# Altium schematic symbol library TB003-500-P02BE.SchLib: 1 symbol
Pins are listed as number, name and electrical type; pins without a type are passive.

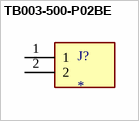
[diagram p0: symbol TB003-500-P02BE]

## TB003-500-P02BE
designator J?
2 Position Wire to Board Terminal Block Horizontal with Board 0.197 (5.00mm) Through Hole; MF: Same Sky; MP: TB003500P02BE; SnapEDA_Link: https://www.snapeda.com/parts/TB003500P02BE/Same+Sky/view-part/?ref=snap; Package: None; Value: *; Check_prices: https://www.snapeda.com/parts/TB003500P02BE/Same+Sky/view-part/?ref=eda
footprint CUI_TB003-500-P02BE
pins: 1, 2